# EAGLE library part DS1340Z (library PP_DigitalIC)
Manufacturer Part #: DS1340Z Manufacturer: Maxim Integrated Description: Real Time Clock I2C RTC w/Trickle Charger
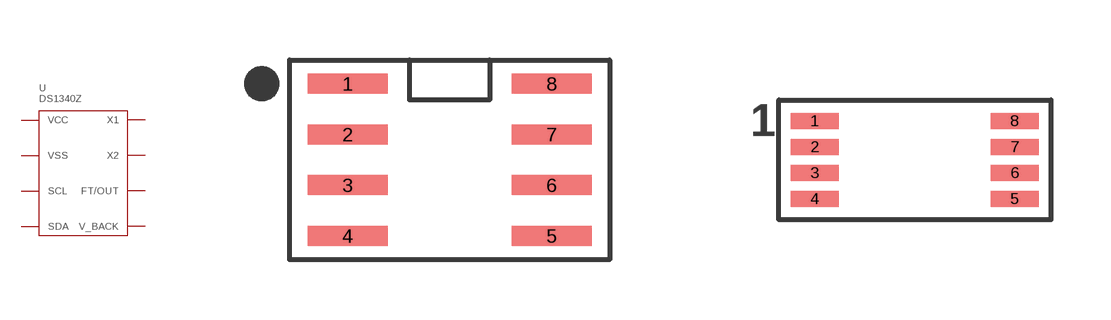
[diagram p19: symbol with the pads of DS1340Z_SOIC-8; footprints DS1340Z_SOIC-8, DS1340Z_USOP]

Designator prefix U

## DS1340Z-33+  [DS1340Z_SOIC-8]
1  X1
2  X2
3  V_BACK
4  VSS
5  SDA
6  SCL
7  FT/OUT
8  VCC

## DS1340ZU-33+  [DS1340Z_USOP]
Pads as for DS1340Z_SOIC-8

## Footprint DS1340Z_SOIC-8 (pad centres in mm)
smd 2 x 0.5: 1 -2.55,1.905; 2 -2.55,0.635; 3 -2.55,-0.635; 4 -2.55,-1.905; 5 2.55,-1.905; 6 2.55,-0.635; 7 2.55,0.635; 8 2.55,1.905

## Footprint DS1340Z_USOP (pad centres in mm)
smd 1.2 x 0.4: 1 -2.5,0.975; 2 -2.5,0.325; 3 -2.5,-0.325; 4 -2.5,-0.975; 5 2.5,-0.975; 6 2.5,-0.325; 7 2.5,0.325; 8 2.5,0.975